# Altium footprint library spd1501.PcbLib: 80 footprints (part 3 of 5)
Each footprint in its own frame and in the unit in brackets; x right, y up, seen from the top. Pads: shape width x height; smd on the part's side, far side on the other; paste and mask are expansions set on the pad; w line width, h text height; cw(c..) or ccw(c..) is an arc to the next point about the centre after c.
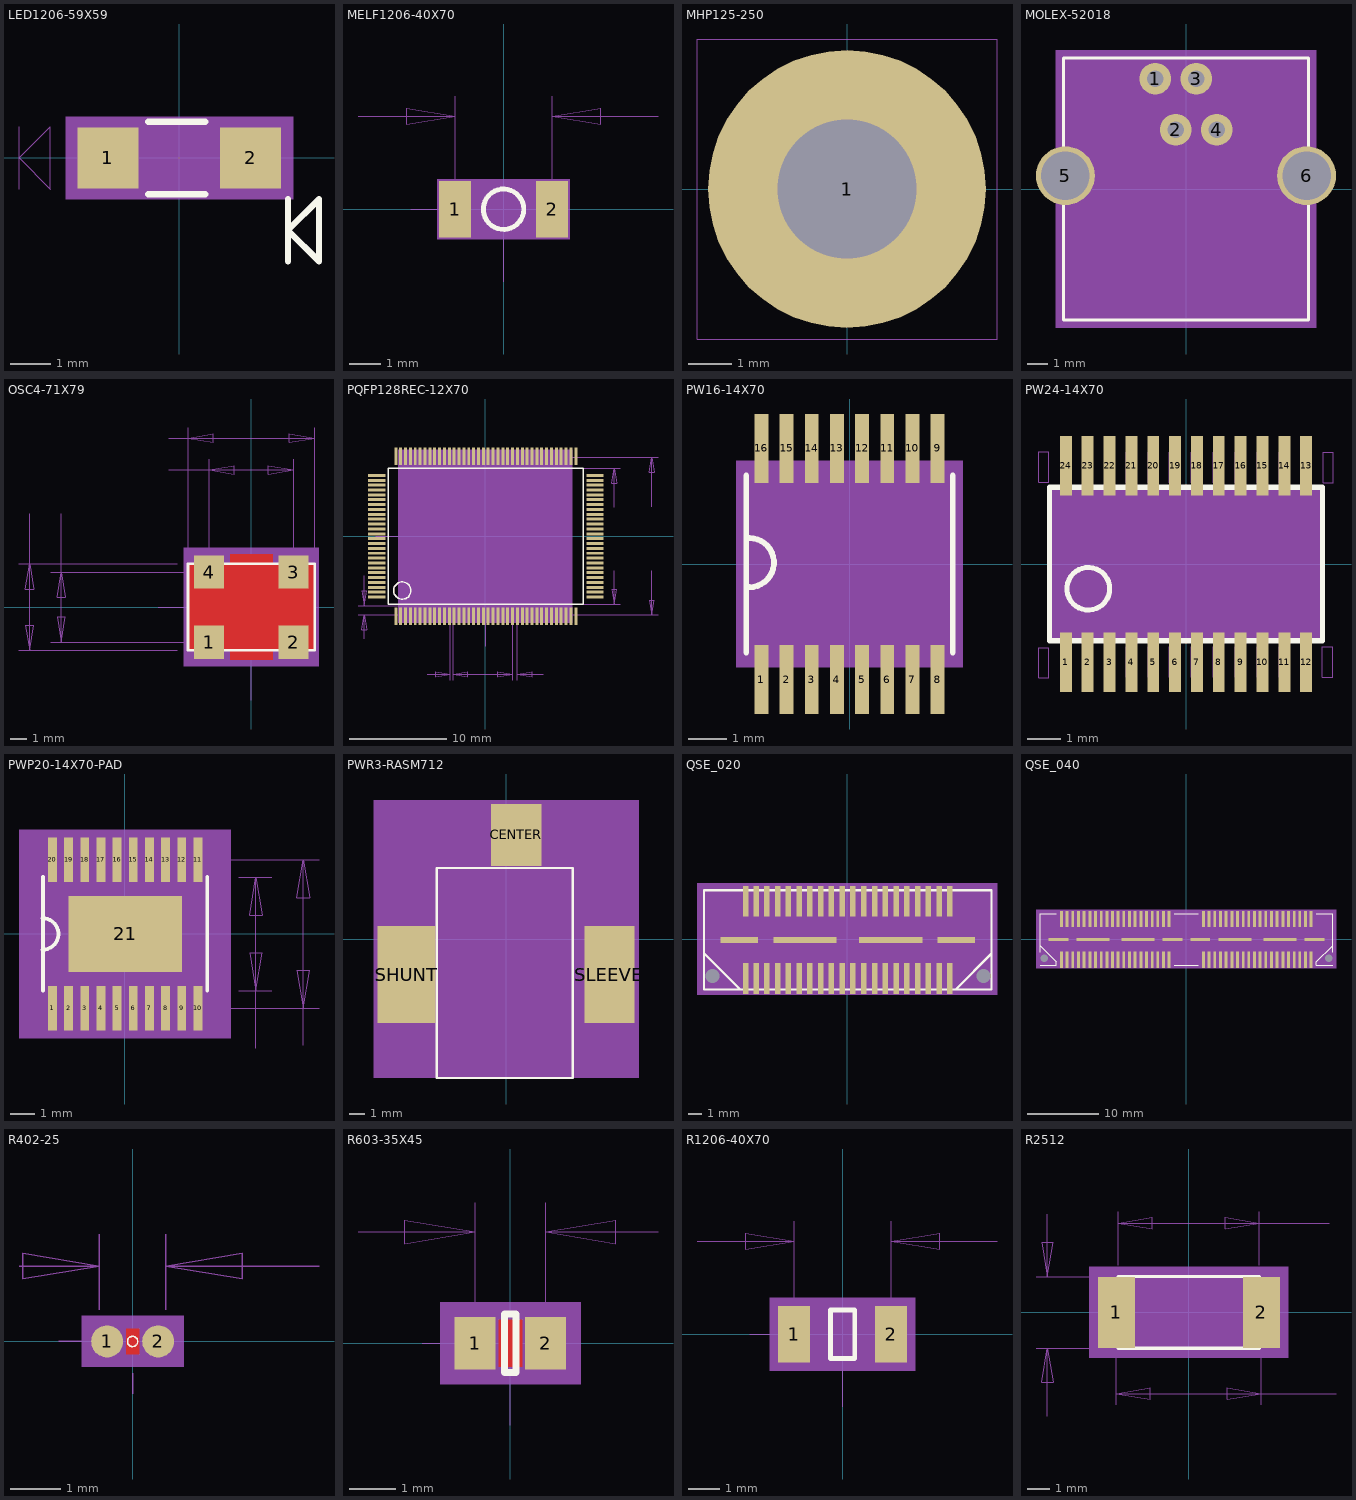
[diagram p2: the footprints below, top view; thin cyan lines are the x and y axes]

## LED1206-59X59 [mil]
pads (2):
  rect 59x59 smd: 1(-69,0) 2(69,0)
Top Overlay:
  lines w6: -30,-35 25,-35 ; -30,35 25,35 ; 105,-100 105,-40 ; 105,-70 135,-40 135,-100 105,-70
  text ".Designator" at -70,-105 h35
Mechanical 15:
  text "2" at 53,0 h40
  text "1" at -85,0 h40
Mechanical 16:
  region: 110,40 110,-40 -110,-40 -110,40
  lines w1: -155,-30 -155,30 ; -155,0 -125,30 -125,-30 -155,0 ; -63,-31.5 63,-31.5 63,31.5 0,31.5 -63,31.5 -63,-31.5
Multi-Layer:
  region: -35,35 35,35 35,-35 -35,-35
Mechanical 17:
  text "LED GRN" at -60,-60 h40
  text "X" at 30,-60 h40
  text "X" at -30,-60 h40

## MELF1206-40X70 [mil]
pads (2):
  rect 40x70 smd: 1(-60,0) 2(60,0)
Top Overlay:
  circle w6: c0,0 r25
Mechanical 15:
  text "1" at -44,0 h40
  text "2" at 76,0 h40
Mechanical 16:
  circle w1: c0,0 r25
  region: -82,-37 82,-37 82,37 -82,37
  lines w1: -180,115 -60,115 ; -115,0 -25,0 ; -60,25 -60,140 ; 0,-90 0,-25 ; 60,25 60,140 ; 191,115 60,115 ; -60,115 -120,105 -120,125 -60,115 ; 60,115 120,125 120,105 60,115
Multi-Layer:
  region: -35,35 35,35 35,-35 -35,-35
Mechanical 17:
  text ".Designator" at 64,50 h40
  text "6.2V" at -35,-15 h40
  text "X" at 0,-15 h40
  text "X" at 40,-15 h40
Mechanical 20:
  text "PAD 40X70OV" at 286,-225 h40
  text "SM  48X78" at 204,-300 h40
  text "SP  40X70OV" at 286,-375 h40
  text "C1206-40X70" at 276,205 h40
  text ".120" at 206,105 h40
  text "0" at -25,-150 h40
  text "0" at -175,-25 h40

## MHP125-250 [mil]
pads (1):
  round 250 hole 125: 1(0,0)
Mechanical 15:
  text "1" at -30,0 h75
Mechanical 16:
  lines w1: -135,-135 135,-135 135,135 -135,135 -135,-135

## MOLEX-52018 [mil]
pads (6):
  round 62 hole 32: 1(-60,216) 2(-20,116) 3(20,216) 4(60,116)
  round 115 hole 95: 5(-236,26) 6(236,26)
Top Overlay:
  lines w6: -240,-256 240,-256 240,256 -240,256 -240,-256
Mechanical 15:
  text "1" at -44,231 h40
  text "2" at -4,151 h40
  text "3" at 36,231 h40
  text "4" at 76,151 h40
  text "6" at 252,61 h40
  text "5" at -220,41 h40
Mechanical 16:
  region: -255,271 255,271 255,-271 -255,-271
  lines w6: -240,-256 240,-256 240,256 -240,256 -240,-255.7
Mechanical 17:
  text ".Designator" at -76,-363 h40

## OSC4-71X79 [mil]
pads (4):
  rect 71x79 smd: 1(-100,-83) 2(100,-83) 3(100,83) 4(-100,83)
Top Layer:
  region: -150,100 -50,100 -50,125 50,125 50,100 150,100 150,-100 50,-100 50,-125 -50,-125 -50,-100 -150,-100
Top Overlay:
  lines w6: -150,-102.5 -50,-102.5 50,-102.5 150,-102.5 150,102.5 50,102.5 -50,102.5 -150,102.5 -150,-102.5
  text ".Designator" at -205,70 h35
Mechanical 15:
  text "4" at -100,115 h40
  text "3" at 100,115 h40
  text "2" at 100,-51 h40
  text "1" at -100,-51 h40
Mechanical 16:
  region: -160,135 -160,140 160,140 160,-140 -160,-140
  lines w1: -550,-102.5 -175,-102.5 ; -550,102.5 -175,102.5 ; -525,221 -525,102.5 ; -475,-83 -125,-83 ; -475,83 -125,83 ; -450,221 -450,83 ; -221,0 -25,0 ; -196,325 -100,325 ; -196,400 -150,400 ; -150,127.5 -150,425 ; -100,108 -100,350 ; 0,-221 0,-25 ; 100,108 100,350 ; 150,127.5 150,425 ; -525,-102.5 -535,-42.5 -515,-42.5 -525,-102.5 ; -525,-102.5 -525,102.5 ; -525,102.5 -515,42.5 -535,42.5 -525,102.5 ; -450,-83 -460,-23 -440,-23 -450,-83 ; -450,-83 -450,83 ; -450,83 -440,23 -460,23 -450,83 ; -150,400 150,400 ; -150,400 -90,410 -90,390 -150,400 ; -100,325 100,325 ; -100,325 -40,335 -40,315 -100,325 ; 100,325 40,315 40,335 100,325 ; 150,400 90,390 90,410 150,400 ; -150,-102.7 -150,-102.5 -50,-102.5 50,-102.5 150,-102.5 150,102.5 50,102.5 -50,102.5 -150,102.5 -150,-102.7
Mechanical 17:
  text "USERPART#" at 0,-300 h40
  text "TOLERANCE" at 0,-200 h40
  text "24 MHz" at 0,0 h40
Mechanical 24:
  text "0" at -295,-20 h40
  text "0" at -20,-295 h40
  text ".200" at -420,305 h40
  text ".300" at -420,380 h40
  text ".205" at -505,255 h40
  text ".166" at -430,255 h40
  text "OSC4-71X79" at -250,-400 h40
  text "SP  71X79REC" at -200,-625 h40
  text "SM  79X87REC" at -200,-550 h40
  text "PAD 71X79REC" at -200,-475 h40

## PQFP128REC-12X70 [mil]
pads (128):
  rrect0% 12x70 smd: 1(-362,-324) 2(-342.3,-324) 3(-322.6,-324) 4(-302.9,-324) 5(-283.2,-324) 6(-263.5,-324) 7(-243.8,-324) 8(-224.1,-324) 9(-204.4,-324) 10(-184.7,-324) 11(-165,-324) 12(-145.3,-324) 13(-125.6,-324) 14(-105.9,-324) 15(-86.2,-324) 16(-66.5,-324) 17(-46.8,-324) 18(-27.1,-324) 19(-7.4,-324) 20(12.4,-324) 21(32.1,-324) 22(51.8,-324) 23(71.5,-324) 24(91.2,-324) 25(110.9,-324) 26(130.6,-324) 27(150.3,-324) 28(170,-324) 29(189.7,-324) 30(209.4,-324) 31(229.1,-324) 32(248.8,-324) 33(268.5,-324) 34(288.2,-324) 35(307.9,-324) 36(327.6,-324) 37(347.3,-324) 38(367,-324) 65(367,324) 66(347.3,324) 67(327.6,324) 68(307.9,324) 69(288.2,324) 70(268.5,324) 71(248.8,324) 72(229.1,324) 73(209.4,324) 74(189.7,324) 75(170,324) 76(150.3,324) 77(130.6,324) 78(110.9,324) 79(91.2,324) 80(71.5,324) 81(51.8,324) 82(32.1,324) 83(12.4,324) 84(-7.4,324) 85(-27.1,324) 86(-46.8,324) 87(-66.5,324) 88(-86.2,324) 89(-105.9,324) 90(-125.6,324) 91(-145.3,324) 92(-165,324) 93(-184.7,324) 94(-204.4,324) 95(-224.1,324) 96(-243.8,324) 97(-263.5,324) 98(-283.2,324) 99(-302.9,324) 100(-322.6,324) 101(-342.3,324) 102(-362,324)
  rrect0% 70x12 smd: 39(444.5,-246.3) 40(444.5,-226.6) 41(444.5,-206.9) 42(444.5,-187.2) 43(444.5,-167.5) 44(444.5,-147.8) 45(444.5,-128.1) 46(444.5,-108.4) 47(444.5,-88.7) 48(444.5,-69) 49(444.5,-49.3) 50(444.5,-29.6) 51(444.5,-9.9) 52(444.5,9.9) 53(444.5,29.6) 54(444.5,49.3) 55(444.5,69) 56(444.5,88.7) 57(444.5,108.4) 58(444.5,128.1) 59(444.5,147.8) 60(444.5,167.5) 61(444.5,187.2) 62(444.5,206.9) 63(444.5,226.6) 64(444.5,246.3) 103(-439.5,246.3) 104(-439.5,226.6) 105(-439.5,206.9) 106(-439.5,187.2) 107(-439.5,167.5) 108(-439.5,147.8) 109(-439.5,128.1) 110(-439.5,108.4) 111(-439.5,88.7) 112(-439.5,69) 113(-439.5,49.3) 114(-439.5,29.6) 115(-439.5,9.9) 116(-439.5,-9.9) 117(-439.5,-29.6) 118(-439.5,-49.3) 119(-439.5,-69) 120(-439.5,-88.7) 121(-439.5,-108.4) 122(-439.5,-128.1) 123(-439.5,-147.8) 124(-439.5,-167.5) 125(-439.5,-187.2) 126(-439.5,-206.9) 127(-439.5,-226.6) 128(-439.5,-246.3)
Top Overlay:
  circle w6: c-335.5,-220 r35
  lines w6: -391.5,-251 -391.5,-276 ; -391.5,251 -391.5,276 ; -366.5,-276 -391.5,-276 ; -366.5,276 -391.5,276 ; 371.5,-276 396.5,-276 ; 371.5,276 396.5,276 ; 396.5,-251 396.5,-276 ; 396.5,251 396.5,276 ; -391.5,-276 396.5,-276 ; -391.5,-276 -391.5,276 ; -391.5,276 396.5,276 ; 396.5,-276 396.5,276
  text ".Designator" at -537.5,40 h35
Mechanical 15:
  text "98" at -278.2,337 h15
  text "97" at -258.5,337 h15
  text "87" at -61.5,337 h15
  text "81" at 56.8,337 h15
  text "66" at 352.3,337 h15
  text "74" at 194.7,337 h15
  text "95" at -219.1,337 h15
  text "94" at -199.4,337 h15
  text "75" at 175,337 h15
  text "71" at 253.8,337 h15
  text "25" at 114.9,-317 h15
  text "76" at 155.3,337 h15
  text "67" at 332.6,337 h15
  text "89" at -100.9,337 h15
  text "52" at 444.5,10.8 h15
  text "2" at -338.3,-323 h15
  text "61" at 444.5,188.2 h15
  text "3" at -318.6,-323 h15
  text "46" at 444.5,-107.4 h15
  text "48" at 444.5,-68 h15
  text "6" at -259.5,-323 h15
  text "49" at 444.5,-48.3 h15
  text "85" at -22.1,337 h15
  text "4" at -298.9,-323 h15
  text "84" at -2.4,337 h15
  text "5" at -279.2,-323 h15
  text "45" at 444.5,-127.1 h15
  text "27" at 154.3,-317 h15
  text "53" at 444.5,30.6 h15
  text "65" at 372,337 h15
  text "55" at 444.5,70 h15
  text "56" at 444.5,89.7 h15
  text "13" at -121.6,-317 h15
  text "26" at 134.6,-317 h15
  text "12" at -141.3,-317 h15
  text "77" at 135.6,337 h15
  text "28" at 174,-317 h15
  text "16" at -62.5,-317 h15
  text "36" at 331.6,-317 h15
  text "70" at 273.5,337 h15
  text "14" at -101.9,-317 h15
  text "88" at -81.2,337 h15
  text "15" at -82.2,-317 h15
  text "20" at 16.4,-317 h15
  text "23" at 75.5,-317 h15
  text "30" at 213.4,-317 h15
  text "31" at 233.1,-317 h15
  text "33" at 272.5,-317 h15
  text "1" at -358,-323 h15
  text "44" at 444.5,-146.8 h15
  text "100" at -317.6,343 h15
  text "101" at -337.3,343 h15
  text "29" at 193.7,-317 h15
  text "32" at 252.8,-317 h15
  text "105" at -439.5,217.9 h15
  text "108" at -439.5,158.8 h15
  text "102" at -357,343 h15
  text "104" at -439.5,237.6 h15
  text "103" at -439.5,257.3 h15
  text "22" at 55.8,-317 h15
  text "123" at -439.5,-136.8 h15
  text "91" at -140.3,337 h15
  text "40" at 444.5,-225.6 h15
  text "57" at 444.5,109.4 h15
  text "43" at 444.5,-166.5 h15
  text "38" at 371,-317 h15
  text "41" at 444.5,-205.9 h15
  text "60" at 444.5,168.5 h15
  text "59" at 444.5,148.8 h15
  text "51" at 444.5,-8.9 h15
  text "50" at 444.5,-28.6 h15
  text "127" at -439.5,-215.6 h15
  text "128" at -439.5,-235.3 h15
  text "93" at -179.7,337 h15
  text "92" at -160,337 h15
  text "107" at -439.5,178.5 h15
  text "8" at -220.1,-323 h15
  text "79" at 96.2,337 h15
  text "109" at -439.5,139.1 h15
  text "116" at -439.5,1.1 h15
  text "117" at -439.5,-18.6 h15
  text "118" at -439.5,-38.3 h15
  text "119" at -439.5,-58 h15
  text "115" at -439.5,20.9 h15
  text "120" at -439.5,-77.7 h15
  text "121" at -439.5,-97.4 h15
  text "124" at -439.5,-156.5 h15
  text "125" at -439.5,-176.2 h15
  text "126" at -439.5,-195.9 h15
  text "114" at -439.5,40.6 h15
  text "113" at -439.5,60.3 h15
  text "111" at -439.5,99.7 h15
  text "110" at -439.5,119.4 h15
  text "112" at -439.5,80 h15
  text "63" at 444.5,227.6 h15
  text "69" at 293.2,337 h15
  text "68" at 312.9,337 h15
  text "106" at -439.5,198.2 h15
  text "122" at -439.5,-117.1 h15
  text "7" at -239.8,-323 h15
  text "90" at -120.6,337 h15
  text "21" at 36.1,-317 h15
  text "78" at 115.9,337 h15
  text "37" at 351.3,-317 h15
  text "64" at 444.5,247.3 h15
  text "62" at 444.5,207.9 h15
  text "58" at 444.5,129.1 h15
  text "54" at 444.5,50.3 h15
  text "47" at 444.5,-87.7 h15
  text "42" at 444.5,-186.2 h15
  text "39" at 444.5,-245.3 h15
  text "9" at -200.4,-323 h15
  text "35" at 311.9,-317 h15
  text "34" at 292.2,-317 h15
  text "24" at 95.2,-317 h15
  text "19" at -3.4,-317 h15
  text "18" at -23.1,-317 h15
  text "17" at -42.8,-317 h15
  text "11" at -161,-317 h15
  text "10" at -180.7,-317 h15
  text "99" at -297.9,337 h15
  text "96" at -238.8,337 h15
  text "72" at 234.1,337 h15
  text "73" at 214.4,337 h15
  text "82" at 37.1,337 h15
  text "83" at 17.4,337 h15
  text "80" at 76.5,337 h15
  text "86" at -41.8,337 h15
Mechanical 16:
  drawing of 454 lines, arcs and shapes, not listed
Mechanical 17:
  text "X" at -97.5,-220 h40
  text "X" at -137.5,-220 h40
  text "KSZ8893MQL" at -182.5,-220 h40
Mechanical 20:
  text "0" at -517.5,-20 h40
  text "0" at -17.5,-520 h40
  text ".0197" at 269.4,-579 h40
  text "PQFP128SQ-12X70" at -285,470 h40
  text "PAD 12X70 OV" at -287,-716.5 h40
Mechanical 25:
  text ".038" at -470,-638.5 h40
  text ".638" at 695,-105 h40
  text ".551" at 543,-106.5 h40
  text ".011" at -458,-579 h40

## PW16-14X70 [mil]
pads (16):
  rrect0% 14x70 smd: 1(-89.6,-117.6) 2(-64,-117.6) 3(-38.4,-117.6) 4(-12.8,-117.6) 5(12.8,-117.6) 6(38.4,-117.6) 7(64,-117.6) 8(89.6,-117.6) 9(89.6,117.6) 10(64,117.6) 11(38.4,117.6) 12(12.8,117.6) 13(-12.8,117.6) 14(-38.4,117.6) 15(-64,117.6) 16(-89.6,117.6)
Top Overlay:
  lines w6: -105,-90 -105,90 ; -101.9,-23.6 ccw(c-101.9,1.4) -101.9,26.4 ; 105,-90 105,90
  text ".Designator" at -190,55 h35
Mechanical 15:
  text "15" at -64,133.6 h20
  text "9" at 89.6,125.6 h20
  text "11" at 38.4,133.6 h20
  text "12" at 12.8,133.6 h20
  text "7" at 64,-109.6 h20
  text "3" at -38.4,-109.6 h20
  text "5" at 12.8,-109.6 h20
  text "1" at -89.6,-109.6 h20
  text "16" at -89.6,133.6 h20
  text "8" at 89.6,-109.6 h20
  text "6" at 38.4,-109.6 h20
  text "2" at -64,-109.6 h20
  text "4" at -12.8,-109.6 h20
  text "13" at -12.8,133.6 h20
  text "14" at -38.4,133.6 h20
  text "10" at 64,133.6 h20
Mechanical 16:
  region: 115,105 115,-105 -115,-105 -115,105
  lines w1: -104.7,-25.3 ccw(c-104.7,-0.3) -104.7,24.7 ; -105,-90 105,-90 105,90 -105,90 -105,-90
Mechanical 17:
  text "MAX3221CPWRG4" at -33,20 h40
  text "X" at 2,20 h40
  text "X" at 37,20 h40

## PW24-14X70 [mil]
pads (24):
  rrect0% 14x70 smd: 1(-140.8,-115) 2(-115.2,-115) 3(-89.6,-115) 4(-64,-115) 5(-38.4,-115) 6(-12.8,-115) 7(12.8,-115) 8(38.4,-115) 9(64,-115) 10(89.6,-115) 11(115.2,-115) 12(140.8,-115) 13(140.8,115) 14(115.2,115) 15(89.6,115) 16(64,115) 17(38.4,115) 18(12.8,115) 19(-12.8,115) 20(-38.4,115) 21(-64,115) 22(-89.6,115) 23(-115.2,115) 24(-140.8,115)
Top Overlay:
  circle w6: c-114.5,-29 r25
  lines w6: -160,-90 160,-90 160,90 -160,90 -160,-90
Mechanical 15:
  text "2" at -119.2,-115 h10
  text "23" at -123.2,115 h10
  text "20" at -46.4,115 h10
  text "19" at -20.8,115 h10
  text "16" at 56,115 h10
  text "18" at 4.8,115 h10
  text "7" at 8.8,-115 h10
  text "15" at 81.6,115 h10
  text "11" at 107.2,-115 h10
  text "14" at 107.2,115 h10
  text "24" at -148.8,115 h10
  text "13" at 132.8,115 h10
  text "1" at -144.8,-115 h10
  text "21" at -72,115 h10
  text "4" at -68,-115 h10
  text "22" at -97.6,115 h10
  text "3" at -93.6,-115 h10
  text "17" at 30.4,115 h10
  text "8" at 34.4,-115 h10
  text "9" at 60,-115 h10
  text "5" at -42.4,-115 h10
  text "10" at 81.6,-115 h10
  text "6" at -16.8,-115 h10
  text "12" at 132.8,-115 h10
Mechanical 16:
  circle w1: c-114.1,-29 r25
  region: 160,-90 160,90 -160,90 -160,-90
  lines w1: -172.6,-133.5 -172.6,-98 -160.6,-98 -160.6,-133.5 -172.6,-133.5 ; -172.6,96 -160.6,96 -160.6,131.5 -172.6,131.5 -172.6,96 ; -160,-90 160,-90 160,90 -160,90 -160,-90 ; -146.9,-132.5 -146.9,-97 -134.9,-97 -134.9,-132.5 -146.9,-132.5 ; -146.9,96 -134.9,96 -134.9,131.5 -146.9,131.5 -146.9,96 ; -121.2,-132.5 -121.2,-97 -109.2,-97 -109.2,-132.5 -121.2,-132.5 ; -121.2,96 -109.2,96 -109.2,131.5 -121.2,131.5 -121.2,96 ; -95.5,-132.5 -95.5,-97 -83.5,-97 -83.5,-132.5 -95.5,-132.5 ; -95.5,96 -83.5,96 -83.5,131.5 -95.5,131.5 -95.5,96 ; -69.8,-132.5 -69.8,-97 -57.8,-97 -57.8,-132.5 -69.8,-132.5 ; -69.8,95.5 -69.8,131 -57.8,131 -57.8,95.5 -69.8,95.5 ; -44.1,-132.5 -44.1,-97 -32.1,-97 -32.1,-132.5 -44.1,-132.5 ; -44.1,95.5 -44.1,131 -32.1,131 -32.1,95.5 -44.1,95.5 ; -19.4,-132.5 -19.4,-97 -7.4,-97 -7.4,-132.5 -19.4,-132.5 ; -19.4,95.5 -19.4,131 -7.4,131 -7.4,95.5 -19.4,95.5 ; 6.4,-132.5 6.4,-97 18.4,-97 18.4,-132.5 6.4,-132.5 ; 6.4,95.5 6.4,131 18.4,131 18.4,95.5 6.4,95.5 ; 32.1,-132.5 32.1,-97 44.1,-97 44.1,-132.5 32.1,-132.5 ; 32.1,95.5 32.1,131 44.1,131 44.1,95.5 32.1,95.5 ; 57.8,-132.5 57.8,-97 69.8,-97 69.8,-132.5 57.8,-132.5 ; 57.8,95.5 57.8,131 69.8,131 69.8,95.5 57.8,95.5 ; 83.5,95.5 83.5,131 95.5,131 95.5,95.5 83.5,95.5 ; 83.6,-132.5 83.6,-97 95.6,-97 95.6,-132.5 83.6,-132.5 ; 109.2,95.5 109.2,131 121.2,131 121.2,95.5 109.2,95.5 ; 109.5,-132.5 109.5,-97 121.5,-97 121.5,-132.5 109.5,-132.5 ; 134.9,95.5 134.9,131 146.9,131 146.9,95.5 134.9,95.5 ; 135.2,-132.5 135.2,-97 147.2,-97 147.2,-132.5 135.2,-132.5 ; 159.9,-132.5 159.9,-97 171.9,-97 171.9,-132.5 159.9,-132.5 ; 160.6,95.5 160.6,131 172.6,131 172.6,95.5 160.6,95.5
Mechanical 17:
  text "X" at 12.8,-115 h40
  text "X" at -9.2,-120 h40
  text "SN74CBTLV3384PW" at -34.2,-120 h40
  text ".Designator" at -93.5,-14 h40

## PWP20-14X70-PAD [mil]
pads (21):
  rrect0% 14x70 smd: 1(-114.7,-117.6) 2(-89.1,-117.6) 3(-63.5,-117.6) 4(-37.9,-117.6) 5(-12.3,-117.6) 6(13.3,-117.6) 7(38.9,-117.6) 8(64.5,-117.6) 9(90.1,-117.6) 10(115.7,-117.6) 11(115.7,117.6) 12(90.1,117.6) 13(64.5,117.6) 14(38.9,117.6) 15(13.3,117.6) 16(-12.3,117.6) 17(-37.9,117.6) 18(-63.5,117.6) 19(-89.1,117.6) 20(-114.7,117.6)
  rect 180x120 smd: 21(0.5,0)
Top Overlay:
  lines w6: -130.1,-25 ccw(c-130.1,0) -130.1,25 ; -129.5,-90 -129.5,90 ; 130.5,-90 130.5,90
  text ".Designator" at -169.5,70 h35
Mechanical 15:
  text "18" at -63.5,133.6 h20
  text "19" at -89.1,133.6 h20
  text "7" at 38.9,-109.6 h20
  text "13" at 64.5,133.6 h20
  text "12" at 90.1,133.6 h20
  text "3" at -63.5,-109.6 h20
  text "2" at -89.1,-109.6 h20
  text "4" at -37.9,-109.6 h20
  text "16" at -12.3,133.6 h20
  text "15" at 13.3,133.6 h20
  text "5" at -12.3,-109.6 h20
  text "6" at 13.3,-109.6 h20
  text "10" at 115.7,-101.6 h20
  text "9" at 90.1,-109.6 h20
  text "17" at -37.9,133.6 h20
  text "14" at 38.9,133.6 h20
  text "21" at 0.5,16 h20
  text "8" at 64.5,-109.6 h20
  text "20" at -114.7,133.6 h20
  text "11" at 115.7,133.6 h20
  text "1" at -114.7,-109.6 h20
Mechanical 16:
  region: -167.5,165 167.5,165 167.5,-165 -167.5,-165
  lines w1: -130.1,-25 ccw(c-130.1,0) -130.1,25 ; 166.3,-117.6 307.5,-117.6 ; 166.3,117.6 307.5,117.6 ; 180.5,-90 232.5,-90 ; 180.5,90 232.5,90 ; 207.5,-181 207.5,-90 ; 282.5,-176 282.5,-117.6 ; 207.5,-90 197.5,-30 217.5,-30 207.5,-90 ; 207.5,-90 207.5,90 ; 207.5,90 217.5,30 197.5,30 207.5,90 ; 282.5,-117.6 272.5,-57.6 292.5,-57.6 282.5,-117.6 ; 282.5,-117.6 282.5,117.6 ; 282.5,117.6 292.5,57.6 272.5,57.6 282.5,117.6 ; -129.5,-90 130.5,-90 130.5,90 -129.5,90 -129.5,-90 ; -120.7,-126 -108.7,-126 -108.7,-96 -120.7,-96 -120.7,-126 ; -120.7,96 -108.7,96 -108.7,126 -120.7,126 -120.7,96 ; -95.1,-126 -83.1,-126 -83.1,-96 -95.1,-96 -95.1,-126 ; -95.1,96 -83.1,96 -83.1,126 -95.1,126 -95.1,96 ; -69.5,-126 -57.5,-126 -57.5,-96 -69.5,-96 -69.5,-126 ; -69.5,96 -57.5,96 -57.5,126 -69.5,126 -69.5,96 ; -43.9,-126 -31.9,-126 -31.9,-96 -43.9,-96 -43.9,-126 ; -43.9,96 -31.9,96 -31.9,126 -43.9,126 -43.9,96 ; -18.3,-126 -6.3,-126 -6.3,-96 -18.3,-96 -18.3,-126 ; -18.3,96 -6.3,96 -6.3,126 -18.3,126 -18.3,96 ; 7.3,-126 19.3,-126 19.3,-96 7.3,-96 7.3,-126 ; 7.3,96 19.3,96 19.3,126 7.3,126 7.3,96 ; 32.9,-126 44.9,-126 44.9,-96 32.9,-96 32.9,-126 ; 32.9,96 44.9,96 44.9,126 32.9,126 32.9,96 ; 58.5,-126 70.5,-126 70.5,-96 58.5,-96 58.5,-126 ; 58.5,96 70.5,96 70.5,126 58.5,126 58.5,96 ; 84.1,-126 96.1,-126 96.1,-96 84.1,-96 84.1,-126 ; 84.1,96 96.1,96 96.1,126 84.1,126 84.1,96 ; 109.7,-126 121.7,-126 121.7,-96 109.7,-96 109.7,-126 ; 109.7,96 121.7,96 121.7,126 109.7,126 109.7,96
Mechanical 17:
  text "TPS70202PWP" at -32.5,20 h40
  text "X" at 2.5,20 h40
  text "X" at 37.5,20 h40
Mechanical 20:
  text "TSSOP20-14X70" at -274.5,450 h40
  text ".1800" at 227.5,-435 h40
  text ".2352" at 302.5,-430 h40

## PWR3-RASM712 [mil]
pads (3):
  rect 130x160 smd: CENTER(26.5,268)
  rect 150x250 smd: SHUNT(-256.5,-92)
  rect 130x250 smd: SLEEVE(266.5,-92)
Top Overlay:
  lines w6: -178.5,-358 171.5,-358 171.5,183 -178.5,183 -178.5,-358
Mechanical 15:
  text "CENTER" at 26.5,460 h40
  text "SHUNT" at -256.5,68 h40
  text "SLEEVE" at 266.5,100 h40
Mechanical 16:
  region: -341.5,-358 341.5,-358 341.5,358 -341.5,358
  lines w1: -178.5,-358 -178.5,183 171.5,183 171.5,-358 -178.5,-358
Mechanical 17:
  text "PART#" at -178.5,-292 h40
  text "TOL" at -178.5,-242 h40
  text "RASM712" at -178.5,-192 h40
  text ".Designator" at -153.5,108 h40

## QSE_020 [mil]
pads (46):
  rect 16x90 smd: 1(300.5,110.5) 2(300.5,-115.5) 3(269.5,110.5) 4(269.5,-115.5) 5(237.5,110.5) 6(237.5,-115.5) 7(206.5,110.5) 8(206.5,-115.5) 9(174.5,110.5) 10(174.5,-115.5) 11(143.5,110.5) 12(143.5,-115.5) 13(111.5,110.5) 14(111.5,-115.5) 15(80.5,110.5) 16(80.5,-115.5) 17(48.5,110.5) 18(48.5,-115.5) 19(17.5,110.5) 20(17.5,-115.5) 21(-13.5,110.5) 22(-13.5,-115.5) 23(-45.5,110.5) 24(-45.5,-115.5) 25(-76.5,110.5) 26(-76.5,-115.5) 27(-108.5,110.5) 28(-108.5,-115.5) 29(-139.5,110.5) 30(-139.5,-115.5) 31(-171.5,110.5) 32(-171.5,-115.5) 33(-202.5,110.5) 34(-202.5,-115.5) 35(-234.5,110.5) 36(-234.5,-115.5) 37(-265.5,110.5) 38(-265.5,-115.5) 39(-296.5,110.5) 40(-296.5,-115.5)
  rect 110x17 smd: 41(-314.5,-2.5) 44(319.5,-2.5)
  rect 185x17 smd: 42(-122.5,-2.5) 43(127.5,-2.5)
  round 20 / inner round 80 / far side round 20 hole 41: " "(-393.5,-107.5) " "(398.5,-107.5)
Top Overlay:
  lines w6: -417.5,-42.5 -312.5,-147.5 ; 317.5,-147.5 422.5,-42.5 ; -417.5,-147.5 -417.5,142.5 422.5,142.5 422.5,-147.5 -417.5,-147.5
Mechanical 15:
  text "26" at -50.9,-115.5 h32
  text "28" at -82.9,-115.5 h32
  text "34" at -176.9,-115.5 h32
  text "35" at -208.9,110.5 h32
  text "33" at -176.9,110.5 h32
  text "30" at -113.9,-115.5 h32
  text "27" at -82.9,110.5 h32
  text "29" at -113.9,110.5 h32
  text "19" at 43.1,110.5 h32
  text "21" at 12.1,110.5 h32
  text "20" at 43.1,-115.5 h32
  text "8" at 219.3,-115.5 h32
  text "12" at 169.1,-115.5 h32
  text "10" at 200.1,-115.5 h32
  text "16" at 106.1,-115.5 h32
  text "14" at 137.1,-115.5 h32
  text "3" at 282.3,110.5 h32
  text "1" at 313.3,110.5 h32
  text "39" at -270.9,110.5 h32
  text "37" at -239.9,110.5 h32
  text "4" at 282.3,-115.5 h32
  text "2" at 313.3,-115.5 h32
  text "40" at -270.9,-115.5 h32
  text "38" at -239.9,-115.5 h32
  text "36" at -208.9,-115.5 h32
  text "24" at -19.9,-115.5 h32
  text "9" at 187.3,110.5 h32
  text "11" at 169.1,110.5 h32
  text "7" at 219.3,110.5 h32
  text "25" at -50.9,110.5 h32
  text "15" at 106.1,110.5 h32
  text "13" at 137.1,110.5 h32
  text "22" at 12.1,-115.5 h32
  text "5" at 250.3,110.5 h32
  text "17" at 74.1,110.5 h32
  text "31" at -145.9,110.5 h32
  text "44" at 345.1,-2.5 h32
  text "41" at -288.9,-2.5 h32
  text "42" at -96.9,-2.5 h32
  text "43" at 153.1,-2.5 h32
  text "6" at 250.3,-115.5 h32
  text "18" at 74.1,-115.5 h32
  text "32" at -145.9,-115.5 h32
  text "23" at -19.9,110.5 h32
Mechanical 16:
  region: 438.5,157.5 438.5,-162.5 -438.5,-162.5 -438.5,162.5 438.5,162.5
  lines w1: -417.5,-42.5 -312.5,-147.5 ; 317.5,-147.5 422.5,-42.5 ; -417.5,-147.5 -417.5,142.5 422.5,142.5 422.5,-147.5 -417.5,-147.5
Mechanical 17:
  text ".Designator" at -391.5,-2.5 h53.3

## QSE_040 [mil]
pads (90):
  rect 16x90 smd: 1(694.5,110.5) 2(694.5,-115.5) 3(663.5,110.5) 4(663.5,-115.5) 5(631.5,110.5) 6(631.5,-115.5) 7(600.5,110.5) 8(600.5,-115.5) 9(568.5,110.5) 10(568.5,-115.5) 11(537.5,110.5) 12(537.5,-115.5) 13(505.5,110.5) 14(505.5,-115.5) 15(474.5,110.5) 16(474.5,-115.5) 17(442.5,110.5) 18(442.5,-115.5) 19(411.5,110.5) 20(411.5,-115.5) 21(380.5,110.5) 22(380.5,-115.5) 23(348.5,110.5) 24(348.5,-115.5) 25(317.5,110.5) 26(317.5,-115.5) 27(285.5,110.5) 28(285.5,-115.5) 29(254.5,110.5) 30(254.5,-115.5) 31(222.5,110.5) 32(222.5,-115.5) 33(191.5,110.5) 34(191.5,-115.5) 35(159.5,110.5) 36(159.5,-115.5) 37(128.5,110.5) 38(128.5,-115.5) 39(97.5,110.5) 40(97.5,-115.5) 41(-93.5,110.5) 42(-93.5,-115.5) 43(-124.5,110.5) 44(-124.5,-115.5) 45(-156.5,110.5) 46(-156.5,-115.5) 47(-187.5,110.5) 48(-187.5,-115.5) 49(-219.5,110.5) 50(-219.5,-115.5) 51(-250.5,110.5) 52(-250.5,-115.5) 53(-282.5,110.5) 54(-282.5,-115.5) 55(-313.5,110.5) 56(-313.5,-115.5) 57(-345.5,110.5) 58(-345.5,-115.5) 59(-376.5,110.5) 60(-376.5,-115.5) 61(-407.5,110.5) 62(-407.5,-115.5) 63(-439.5,110.5) 64(-439.5,-115.5) 65(-470.5,110.5) 66(-470.5,-115.5) 67(-502.5,110.5) 68(-502.5,-115.5) 69(-533.5,110.5) 70(-533.5,-115.5) 71(-565.5,110.5) 72(-565.5,-115.5) 73(-596.5,110.5) 74(-596.5,-115.5) 75(-628.5,110.5) 76(-628.5,-115.5) 77(-659.5,110.5) 78(-659.5,-115.5) 79(-690.5,110.5) 80(-690.5,-115.5)
  rect 110x17 smd: 81(-708.5,-2.5) 84(-74.5,-2.5) 85(79.5,-2.5) 88(713.5,-2.5)
  rect 185x17 smd: 82(-516.5,-2.5) 83(-266.5,-2.5) 86(271.5,-2.5) 87(521.5,-2.5)
  round 20 / inner round 75 / far side round 20 hole 41: 89(792.5,-107.5) 90(-787.5,-107.5)
Top Overlay:
  lines w6: -809.5,-144.5 -719.5,-144.5 -719.5,-127.5 -809.5,-37.5 ; -809.5,-74.5 -809.5,139.5 -719.5,139.5 ; -64.5,-144.5 68.5,-144.5 ; -64.5,139.5 68.5,139.5 ; 723.5,139.5 813.5,139.5 813.5,-74.5 ; 813.5,-144.5 723.5,-144.5 723.5,-127.5 813.5,-37.5
Mechanical 15:
  text "73" at -570.9,110.5 h32
  text "13" at 531.1,110.5 h32
  text "16" at 500.1,-115.5 h32
  text "7" at 613.3,110.5 h32
  text "15" at 500.1,110.5 h32
  text "14" at 531.1,-115.5 h32
  text "18" at 468.1,-115.5 h32
  text "52" at -224.9,-115.5 h32
  text "24" at 374.1,-115.5 h32
  text "60" at -350.9,-115.5 h32
  text "6" at 644.3,-115.5 h32
  text "23" at 374.1,110.5 h32
  text "57" at -319.9,110.5 h32
  text "45" at -130.9,110.5 h32
  text "43" at -98.9,110.5 h32
  text "1" at 707.3,110.5 h32
  text "3" at 676.3,110.5 h32
  text "77" at -633.9,110.5 h32
  text "79" at -664.9,110.5 h32
  text "4" at 676.3,-115.5 h32
  text "2" at 707.3,-115.5 h32
  text "78" at -633.9,-115.5 h32
  text "80" at -664.9,-115.5 h32
  text "56" at -287.9,-115.5 h32
  text "46" at -130.9,-115.5 h32
  text "31" at 248.1,110.5 h32
  text "25" at 343.1,110.5 h32
  text "28" at 311.1,-115.5 h32
  text "27" at 311.1,110.5 h32
  text "49" at -193.9,110.5 h32
  text "22" at 406.1,-115.5 h32
  text "61" at -381.9,110.5 h32
  text "8" at 613.3,-115.5 h32
  text "74" at -570.9,-115.5 h32
  text "34" at 217.1,-115.5 h32
  text "44" at -98.9,-115.5 h32
  text "58" at -319.9,-115.5 h32
  text "55" at -287.9,110.5 h32
  text "51" at -224.9,110.5 h32
  text "38" at 154.1,-115.5 h32
  text "63" at -413.9,110.5 h32
  text "33" at 217.1,110.5 h32
  text "68" at -476.9,-115.5 h32
  text "65" at -444.9,110.5 h32
  text "70" at -507.9,-115.5 h32
  text "67" at -476.9,110.5 h32
  text "50" at -193.9,-115.5 h32
  text "62" at -381.9,-115.5 h32
  text "26" at 343.1,-115.5 h32
  text "59" at -350.9,110.5 h32
  text "64" at -413.9,-115.5 h32
  text "32" at 248.1,-115.5 h32
  text "37" at 154.1,110.5 h32
  text "66" at -444.9,-115.5 h32
  text "12" at 563.1,-115.5 h32
  text "17" at 468.1,110.5 h32
  text "29" at 280.1,110.5 h32
  text "87" at 547.1,-2.5 h32
  text "88" at 739.1,-2.5 h32
  text "85" at 105.1,-2.5 h32
  text "86" at 297.1,-2.5 h32
  text "9" at 581.3,110.5 h32
  text "19" at 437.1,110.5 h32
  text "81" at -682.9,-2.5 h32
  text "82" at -490.9,-2.5 h32
  text "83" at -240.9,-2.5 h32
  text "84" at -48.9,-2.5 h32
  text "39" at 123.1,110.5 h32
  text "35" at 185.1,110.5 h32
  text "41" at -67.9,110.5 h32
  text "71" at -539.9,110.5 h32
  text "10" at 594.1,-115.5 h32
  text "20" at 437.1,-115.5 h32
  text "40" at 123.1,-115.5 h32
  text "30" at 280.1,-115.5 h32
  text "36" at 185.1,-115.5 h32
  text "42" at -67.9,-115.5 h32
  text "48" at -161.9,-115.5 h32
  text "72" at -539.9,-115.5 h32
  text "11" at 563.1,110.5 h32
  text "21" at 406.1,110.5 h32
  text "90" at -761.9,-107.5 h32
  text "89" at 818.1,-107.5 h32
  text "76" at -602.9,-115.5 h32
  text "75" at -602.9,110.5 h32
  text "69" at -507.9,110.5 h32
  text "54" at -256.9,-115.5 h32
  text "53" at -256.9,110.5 h32
  text "5" at 644.3,110.5 h32
  text "47" at -161.9,110.5 h32
Mechanical 16:
  region: 832.5,157.5 832.5,-162.5 -832.5,-162.5 -832.5,162.5 832.5,162.5
Mechanical 17:
  text ".Designator" at 2.5,-2.5 h53.3

## R402-25 [mil]
pads (2):
  round 25 smd: 1(-20,0) 2(20,0)
Top Layer:
  region: -5,-10 -5,10 5,10 5,-10
Top Overlay:
  circle w1: c0,0 r4
Mechanical 15:
  text "2" at 12,0 h20
  text "1" at -28,0 h20
Mechanical 16:
  region: -40,20 40,20 40,-20 -40,-20
  lines w1: -89,59 -26,59 ; -58,0 -25,0 ; -26,25 -26,84 ; 0,-41 0,-25 ; 26,25 26,84 ; 146,59 26,59 ; -26,59 -86,49 -86,69 -26,59 ; 26,59 86,69 86,49 26,59 ; -20,-10 20,-10 20,10 -20,10 -20,-10
Mechanical 17:
  text ".Designator" at -40,-15 h25
  text "0" at 0,0 h25
  text "TOLERANCE" at 0,-100 h25
  text "USERPART#" at 0,-150 h25
Mechanical 24:
  text "PAD 35X32 OV" at -123,-188 h25
  text "C402-35X32" at -123,-138 h25
  text ".052" at -189,46 h25
  text "0" at -8,-84 h25
  text "0" at -92,-13 h25

## R603-35X45 [mil]
pads (2):
  rrect0% 35x45 smd: 1(-30,0) 2(30,0)
Top Layer:
  region: -10,20 10,20 10,-20 -10,-20
Top Overlay:
  lines w6: -5,-25 -5,25 5,25 5,-25 -5,-25
  text ".Designator" at -80,-70 h35
Mechanical 15:
  text "1" at -30,16 h40
  text "2" at 30,16 h40
Mechanical 16:
  region: -60,35 60,35 60,-35 -60,-35
  lines w1: -130,95 -30,95 ; -75,0 -25,0 ; -30,25 -30,120 ; 0,-70 0,-25 ; 30,25 30,120 ; 126,95 30,95 ; -30,95 -90,85 -90,105 -30,95 ; 30,95 90,105 90,85 30,95 ; -55,-30 55,-30 55,30 -55,30 -55,-30
Mechanical 17:
  text "X" at 40,-15 h40
  text "X" at 5,-15 h40
  text "9.09K 1%" at -25,-15 h40
Mechanical 20:
  text "0" at -145,-20 h40
  text "0" at -20,-140 h40
  text ".060" at -330,75 h40
  text "R603-35X45" at -210,190 h40
  text "SP  35X45OV" at 185,-55 h40
  text "SM  43X53OV" at 185,15 h40
  text "PAD 35X45OV" at 185,75 h40

## R1206-40X70 [mil]
pads (2):
  rrect0% 40x70 smd: 1(-60,0) 2(60,0)
Top Overlay:
  lines w6: -15,-30 -15,30 15,30 15,-30 -15,-30
Mechanical 15:
  text "2" at 60,-4 h40
  text "1" at -60,-4 h40
Mechanical 16:
  region: -90,-45 90,-45 90,45 -90,45
  lines w1: -180,115 -60,115 ; -115,0 -25,0 ; -60,25 -60,140 ; 0,-90 0,-25 ; 60,25 60,140 ; 191,115 60,115 ; -60,115 -120,105 -120,125 -60,115 ; 60,115 120,125 120,105 60,115 ; -15,-30 -15,30 15,30 15,-30 -15,-30
Multi-Layer:
  region: -35,35 35,35 35,-35 -35,-35
Mechanical 17:
  text ".Designator" at 0,98 h40
  text "0.02" at -45,-20 h40
  text "X" at -5,-20 h40
  text "X" at 25,-15 h40
Mechanical 20:
  text "PAD 40X70OV" at 425,201 h40
  text "SM  48X78OV" at 425,131 h40
  text "SP  40X70OV" at 425,51 h40
  text "R1206-40X70" at 0,376 h40
  text ".120" at -395,100 h40
  text "0" at -25,-150 h40
  text "0" at -175,-25 h40

## R2512 [mil]
pads (2):
  rect 65x125 smd: 1(-127.5,0) 2(127.5,0)
Top Overlay:
  lines w6: -124,-63 124,-63 124,63 -124,63 -124,-63
Mechanical 15:
  text "1" at -139.5,0 h30
  text "2" at 115.5,0 h30
Mechanical 16:
  region: -175,-80 175,-80 175,80 -175,80
  lines w1: -269,-63 -144,-63 ; -269,63 -144,63 ; -249,-183 -249,-63 ; -249,173 -249,63 ; -127.5,-163 -127.5,-20 ; -124,83 -124,177 ; 124,83 124,177 ; 127.5,-163 127.5,-20 ; 247,157 124,157 ; 259,-143 127.5,-143 ; -249,-63 -239,-123 -259,-123 -249,-63 ; -249,63 -259,123 -239,123 -249,63 ; -127.5,-143 127.5,-143 ; -127.5,-143 -67.5,-133 -67.5,-153 -127.5,-143 ; -124,-63 124,-63 ; -124,-63 -124,63 ; -124,-63 124,-63 ; -124,-63 -124,63 ; -124,63 124,63 ; -124,63 124,63 ; -124,157 124,157 ; -124,157 -64,167 -64,147 -124,157 ; 124,-63 124,63 ; 124,-63 124,63 ; 124,157 64,147 64,167 124,157 ; 127.5,-143 67.5,-153 67.5,-133 127.5,-143
Mechanical 20:
  text "R2512-65x125" at -156,312 h35.9
  text "65X125REC" at -130,-277 h35.9
  text ".248" at 292,127 h60
  text ".255" at 304,-173 h60
  text ".126" at -345,218 h60